# EAGLE library part 5-534206-4 (library 5-534206-4)
Body Features: Connector Profile Standard | Primary Product Color Black | Configuration Features: Number of Positions 8 | Stackable Yes | Board-to-Board Configuration Parallel | Number of Rows 2 | PCB Mount Orientation Vertical | Contact Features: Contact Base Material Phosphor Bronze | Contact Mating Area Plating Material Thickness .762 MICM | Contact Protection Type Closed Entry Housing | Contact Mating Area Plating Material Thickness 30 MICIN | Contact Shape & Form Square | Contact Type Socket | PCB Cont Source: Datasheet <https://www.te.com/commerce/DocumentDelivery/DDEController?Action=srchrtrv&DocNm=1307819_SECTION_5&DocType=Catalog Section&DocLang=English&PartCntxt=5-534206-4&DocFormat=pdf>
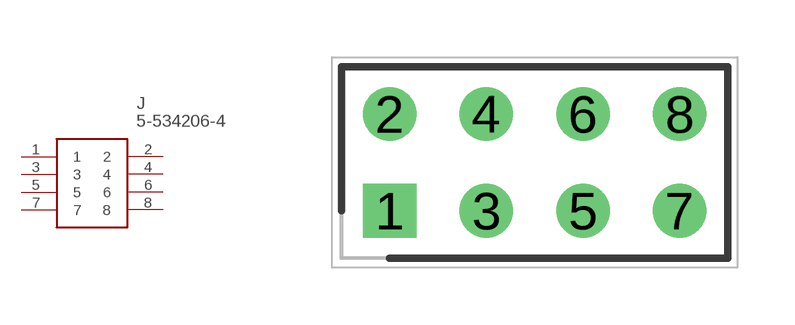
[diagram p0: symbol with the pads of RHDR8W69P254_2X4_1016X503X877P; footprint RHDR8W69P254_2X4_1016X503X877P]

Designator prefix J

## 5-534206-4 (Arrow_Part_Number: 5-534206-4; Arrow_Price-Stock: https://www.arrow.com/en/products/5-534206-4/te-connectivity?region=nac; Description: Body Features: Connector Profile Standard | Primary Product Color Black | Configuration Features: Number of Positions 8 | Stackable Yes | Board-to-Board Configuration Parallel | Number of Rows 2 | PCB Mount Orientation Vertical | Contact Features: Contact Base Material Phosphor Bronze | Contact Mating Area Plating Material Thickness .762 MICM | Contact Protection Type Closed Entry Housing | Contact Mating Area Plating Material Thickness 30 MICIN | Contact Shape & Form Square | Contact Type Socket | PCB Cont; Height: 8.77mm; Manufacturer_Name: TE Connectivity; Manufacturer_Part_Number: 5-534206-4; Mouser_Part_Number: 571-5-534206-4; Mouser_Price-Stock: https://www.mouser.co.uk/ProductDetail/TE-Connectivity/5-534206-4?qs=Eln3I3szM1ldJZZch%252BwNBQ%3D%3D)  [RHDR8W69P254_2X4_1016X503X877P]
1  1
2  2
3  3
4  4
5  5
6  6
7  7
8  8

## Footprint RHDR8W69P254_2X4_1016X503X877P (pad centres in mm)
5-534206-4
drill 0.9 pad 1.35 square: 1 0,0
drill 0.9 pad 1.35: 2 0,2.54; 3 2.54,0; 4 2.54,2.54; 5 5.08,0; 6 5.08,2.54; 7 7.62,0; 8 7.62,2.54